# Altium schematic symbol library GENERIC_FUSE_HOLDER_HALF.SchLib: 1 symbol
Pins are listed as number, name and electrical type; pins without a type are passive.

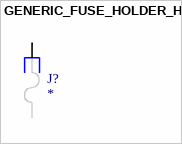
[diagram p0: symbol GENERIC_FUSE_HOLDER_HALF]

## GENERIC_FUSE_HOLDER_HALF
designator J?
pins: 1